# EAGLE library part MAX11661 (library STAC)
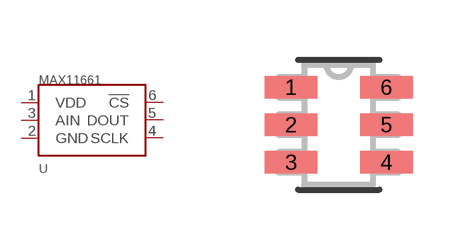
[diagram p11: symbol with the pads of 21-0058I; footprint 21-0058I]

Designator prefix U

## MAX11661  [21-0058I]
1  VDD
2  GND
3  AIN
4  SCLK
5  DOUT
6  !CS

## Footprint 21-0058I (pad centres in mm)
smd 1.321 x 0.559: 1 -1.194,0.94; 2 -1.194,0; 3 -1.194,-0.94; 4 1.194,-0.94; 5 1.194,0; 6 1.194,0.94